# Altium schematic symbol library SWG.SchLib: 35 symbols
Pins are listed as number, name and electrical type; pins without a type are passive.

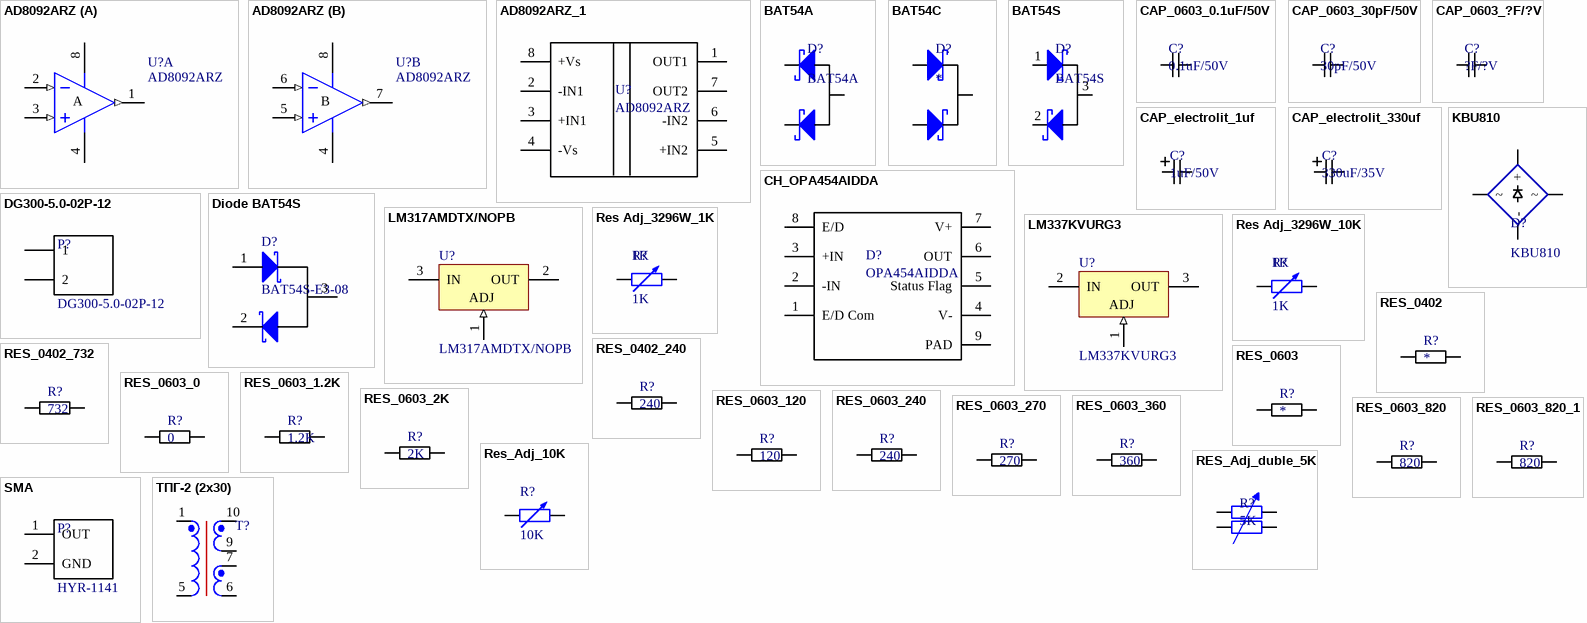
[diagram p0: symbols AD8092ARZ to ТПГ-2 (2x30)]

## AD8092ARZ
designator U?
Dual amplifiers, ±5 V supplies, SOIC-8 (R-8); Manufacturer: Analog Devices; PartNumber: AD8092ARZ; Package: SOIC-8
footprint AD_SOIC-8_R-8_Rev4 (Small Outline IC (SOIC), 1.27 mm pitch; 8 pin, 4.90 mm L X 3.90 mm W X 1.75 mm H body)
pins on every part: 4 V- (power), 8 V+ (power)
part A pins: 1 OUT1 (out), 2 IN1- (in), 3 IN1+ (in)
part B pins: 5 IN2+ (in), 6 IN2- (in), 7 OUT2 (out)
part A text: A
part B text: B

## AD8092ARZ_1
designator U?, comment AD8092ARZ
Manufacturer: Analog Devices; PartNumber: AD8092ARZ
footprint AD_SOIC-8_R-8_Rev4 (Small Outline IC (SOIC), 1.27 mm pitch; 8 pin, 4.90 mm L X 3.90 mm W X 1.75 mm H body)
pins: 1 OUT1, 2 -IN1, 3 +IN1, 4 -Vs, 5 +IN2, 6 -IN2, 7 OUT2, 8 +Vs

## BAT54A
designator D?
BAT-54A Schottky diode(s); Manufacturer: *; PartNumber: BAT54A
footprint SOT23-3L (SOT23, 3-Leads, Body 2.9x1.3mm, Pitch 0.95mm, Lead Span 2.5mm, IPC High Density)
pins: 1 K1, 2 K2, 3 A1A2

## BAT54C
designator D?
BAT-54C Schottky diode(s); Manufacturer: *; PartNumber: *
footprint SOT23-3L (SOT23, 3-Leads, Body 2.9x1.3mm, Pitch 0.95mm, Lead Span 2.5mm, IPC High Density)
pins: 1 A1, 2 A2, 3 K1K2

## BAT54S
designator D?
BAT-54S Schottky diode(s); Manufacturer: *; PartNumber: BAT54S
footprint SOT23-3L (SOT23, 3-Leads, Body 2.9x1.3mm, Pitch 0.95mm, Lead Span 2.5mm, IPC High Density)
pins: 1 A1, 2 K2, 3 A1K2

## CAP_0603_0.1uF/50V
designator C?, comment 0.1uF/50V
Manufacturer: Murata Manufacturing; PartNumber: GRM188R71H104KA93D; N_GROUP: CAP; Value: 0.1uF/50V; Package: 0603
footprint C0603 (CHIP Capacitor, 1.6X0.8mm, 0603)
pins: 1, 2

## CAP_0603_30pF/50V
designator C?, comment 30pF/50V
Manufacturer: Murata Manufacturing; PartNumber: GRM2165C1H300JZ01D; N_GROUP: CAP; Value: 30pF/50V; Package: 0603
footprint C0603 (CHIP Capacitor, 1.6X0.8mm, 0603)
pins: 1, 2

## CAP_0603_?F/?V
designator C?, comment ?F/?V
Manufacturer: Murata Manufacturing; N_GROUP: CAP; PartNumber: ?; Value: ?F/?V; Package: 0603
footprint C0603 (CHIP Capacitor, 1.6X0.8mm, 0603)
pins: 1, 2

## CAP_electrolit_1uf
designator C?, comment 1uF/50V
Manufacturer: JB; PartNumber: JCK1H010M040054; N_GROUP: CAP; Value: 1uF/50V; Package: *
footprint UCHEMI-CON_CAP0404_RAD
pins: 1 +, 2 -

## CAP_electrolit_330uf
designator C?, comment 330uF/35V
Manufacturer: JB; PartNumber: JCK1V331M100105; N_GROUP: CAP; Value: 330uF/35V; Package: *
footprint UCHEMI-CON_CAP1010_RAD
pins: 1 +, 2 -

## CH_OPA454AIDDA
designator D?, comment OPA454AIDDA
IC OPAMP GP 1 CIRCUIT 8SOPWRPAD; Manufacturer: Texas Instruments; PartNumber: OPA454AIDDA
footprint TI_8SOICPAD
pins: 1 E/D Com, 2 -IN, 3 +IN, 4 V-, 5 Status Flag, 6 OUT, 7 V+, 8 E/D, 9 PAD

## DG300-5.0-02P-12
designator P?
Manufacturer: Degson Electronics; PartNumber: DG300-5.0-02P-12
footprint ТПГ-2 (2x30)
pins: 1, 2

## Diode BAT54S
designator D?, comment BAT54S-E3-08
Dual Schottky Rectifier, SOT-23, 30V 200mA; Manufacturer: Vishay; ComponentLink1Description: Manufacturer Link; ComponentLink1URL: http://www.irf.com/; ComponentLink2Description: Datasheet; ComponentLink2URL: http://www.irf.com/product-info/datasheets/data/10tq.pdf; PartNumber: BAT54S-E3-08; Package: SOT23
footprint SOT23-3L (SOT23, 3-Leads, Body 2.9x1.3mm, Pitch 0.95mm, Lead Span 2.5mm, IPC High Density)
pins: 1 A1, 2 K2, 3 K1A2

## KBU810
designator D?
KBU8 series bridge single-phase rectifier, 8А, 1000V; Manufacturer: China; PartNumber: KBU810
footprint KBU8 (KBU8xx diode bridge rectifier)
pins: 1 +, 2 ~, 3 ~, 4 -

## LM317AMDTX/NOPB
designator U?
3-Terminal Adjustable Regulator; Manufacturer: Texas Instruments; PartNumber: LM317AMDTX/NOPB; ComponentLink1Description: LM317 Datasheet; ComponentLink1URL: http://www.national.com/ds/LM/LM317.pdf; ComponentLink2Description: LM317 Web Page; ComponentLink2URL: http://www.national.com/pf/LM/LM317.html; ComponentLink3Description: T03B Package Page; ComponentLink3URL: http://www.national.com/packaging/folders/t03b.html; Package: TO-252A
footprint SC_TO-252A (D-PAK)
pins: 1 ADJ (in), 2 OUT (power), 3 IN (power)

## LM337KVURG3
designator U?
3-Terminal Adjustable Negative Regulator; Manufacturer: Texas Instruments; PartNumber: LM337KVURG3; ComponentLink1Description: LM337 Datasheet; ComponentLink1URL: http://www.national.com/ds/LM/LM337.pdf; ComponentLink2Description: LM337 Web Page; ComponentLink2URL: http://www.national.com/pf/LM/LM337.html; ComponentLink3Description: T03B Package Page; ComponentLink3URL: http://www.national.com/packaging/folders/t03b.html; Package: TO-252A
footprint SC_TO-252A (D-PAK)
pins: 1 ADJ (in), 2 IN (power), 3 OUT (power)

## Res Adj_3296W_1K
designator R?, comment 1K
Variable Resistor; Model: 3296; Manufacturer: *; PartNumber: *; Value: 1K
footprint R-3296W-1K
pins: 1, 2

## Res Adj_3296W_10K
designator R?, comment 1K
Variable Resistor; Model: 3296; Manufacturer: *; PartNumber: *; Value: 1K
footprint R-3296W-1K
pins: 1, 2

## RES_0402
designator R?
N_GROUP: RES; Manufacturer: *; PartNumber: *; Value: *; Package: 0402; Tolerance: *
footprint R0402 (CHIP Resistor 1/16 WATT, 1.0X0.5mm, 0402, 1005)
pins: 1, 2

## RES_0402_240
designator R?, comment 240
RES SMD 240 OHM 1% 1/10W 0402; Manufacturer: Panasonic Electronic Components; PartNumber: ERJ-2RKF2400X; N_GROUP: RES; Value: 240; Package: 0402; Tolerance: ±1%
footprint R0402 (CHIP Resistor 1/16 WATT, 1.0X0.5mm, 0402, 1005)
pins: 1, 2

## RES_0402_732
designator R?, comment 732
RES SMD 732 OHM 1% 1/10W 0402; Manufacturer: Panasonic Electronic Components; PartNumber: ERJ-2RKF7320X; N_GROUP: RES; Value: 732; Package: 0402; Tolerance: ±1%
footprint R0402 (CHIP Resistor 1/16 WATT, 1.0X0.5mm, 0402, 1005)
pins: 1, 2

## RES_0603
designator R?
N_GROUP: RES; Manufacturer: *; PartNumber: *; Value: *; Package: 0603; Tolerance: *
footprint R0603 (CHIP Resistor 1/10 WATT, 1.6x0.8mm, 0603, 1608)
pins: 1, 2

## RES_0603_0
designator R?, comment 0
Manufacturer: Yageo; PartNumber: RC0603JR-070RL; N_GROUP: RES; Value: 0; Package: 0603
footprint R0603 (CHIP Resistor 1/10 WATT, 1.6x0.8mm, 0603, 1608)
pins: 1, 2

## RES_0603_1.2K
designator R?, comment 1.2K
Manufacturer: Yageo; PartNumber: RC0603FR-071K2L; N_GROUP: RES; Value: 1.2K; Package: 0603
footprint R0603 (CHIP Resistor 1/10 WATT, 1.6x0.8mm, 0603, 1608)
pins: 1, 2

## RES_0603_2K
designator R?, comment 2K
Manufacturer: Yageo; PartNumber: RC0603FR-0744K2L; N_GROUP: RES; Value: 2K; Package: 0603
footprint R0603 (CHIP Resistor 1/10 WATT, 1.6x0.8mm, 0603, 1608)
pins: 1, 2

## RES_0603_120
designator R?, comment 120
Manufacturer: Yageo; PartNumber: RC0603FR-07120RL; N_GROUP: RES; Value: 120; Package: 0603
footprint R0603 (CHIP Resistor 1/10 WATT, 1.6x0.8mm, 0603, 1608)
pins: 1, 2

## RES_0603_240
designator R?, comment 240
Manufacturer: Yageo; PartNumber: RC0603FR-07240RL; N_GROUP: RES; Tolerance: ±1%; Value: 240; Package: 0603; RoHS: ROHS3 Compliant
footprint R0603 (CHIP Resistor 1/10 WATT, 1.6x0.8mm, 0603, 1608)
pins: 1, 2

## RES_0603_270
designator R?, comment 270
Manufacturer: Yageo; PartNumber: RC0603FR-07270RL; N_GROUP: RES; Value: 270; Package: 0603
footprint R0603 (CHIP Resistor 1/10 WATT, 1.6x0.8mm, 0603, 1608)
pins: 1, 2

## RES_0603_360
designator R?, comment 360
Manufacturer: Yageo; PartNumber: RC0603FR-07360RL; N_GROUP: RES; Value: 360; Package: 0603
footprint R0603 (CHIP Resistor 1/10 WATT, 1.6x0.8mm, 0603, 1608)
pins: 1, 2

## RES_0603_820
designator R?, comment 820
Manufacturer: Yageo; PartNumber: RC0603FR-07820RL; N_GROUP: RES; Value: 820; Package: 0603
footprint R0603 (CHIP Resistor 1/10 WATT, 1.6x0.8mm, 0603, 1608)
pins: 1, 2

## RES_0603_820_1
designator R?, comment 820
Manufacturer: Yageo; PartNumber: RC0603FR-07820RL; N_GROUP: RES; Value: 820; Package: 0603
footprint R0603 (CHIP Resistor 1/10 WATT, 1.6x0.8mm, 0603, 1608)
pins: 1, 2

## Res_Adj_10K
designator R?, comment 10K
Variable Resistor; PartNumber: 16K1-10C10K,L15KC; Manufacturer: China; Value: 10K
footprint RES_Adj_10K
pins: 1, 2

## RES_Adj_duble_5K
designator R?, comment 5K
Dual variable resistor WH148-2, resistance nominal 5kom. Metal handle with a recess for the cap.; Manufacturer: China; Value: 5K; PartNumber: WH148-2
footprint RES_Adj_duble_5K
pins: 1, 2, 3, 4

## SMA
designator P?, comment HYR-1141
Manufacturer: New Centress (HOYUTEC); PartNumber: HYR-1141
footprint SMA
pins: 1 OUT, 2 GND

## ТПГ-2 (2x30)
designator T?
Sealed transformer; PartNumber: ТПГ-2(2х30В); Manufacturer: Комплекс
footprint ТПГ-2 (2x30)
pins: 1, 5, 6, 7, 9, 10